# EAGLE library part PCA9685_FEMALE (library club)
PCA9685_20PINS_FEMALE
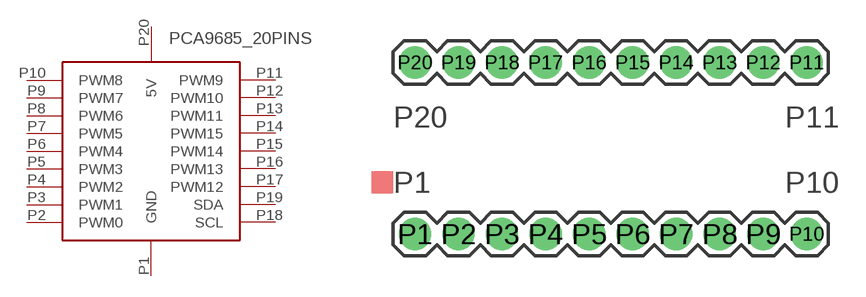
[diagram p2: symbol with the pads of 2X10PINS_SPACE10MM; footprint 2X10PINS_SPACE10MM]

Designator prefix -

## PCA9685_FEMALE  [2X10PINS_SPACE10MM]
P1  GND
P2  PWM0
P3  PWM1
P4  PWM2
P5  PWM3
P6  PWM4
P7  PWM5
P8  PWM6
P9  PWM7
P10  PWM8
P11  PWM9
P12  PWM10
P13  PWM11
P14  PWM15
P15  PWM14
P16  PWM13
P17  PWM12
P18  SCL
P19  SDA
P20  5V

## Footprint 2X10PINS_SPACE10MM (pad centres in mm)
drill 1.016 pad 1.88: P1 0,-10; P2 2.54,-10; P3 5.08,-10; P4 7.62,-10; P5 10.16,-10; P6 12.7,-10; P7 15.24,-10; P8 17.78,-10; P9 20.32,-10; P10 22.86,-10; P11 22.86,0; P12 20.32,0; P13 17.78,0; P14 15.24,0; P15 12.7,0; P16 10.16,0; P17 7.62,0; P18 5.08,0; P19 2.54,0; P20 0,0